# EAGLE library part DG411-J (library joakim)
Quad switch, normally closed
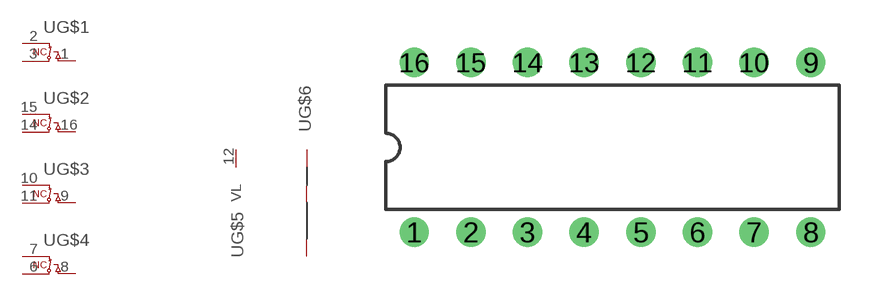
[diagram p61: symbol with the pads of DIL16J; footprint DIL16J]

Designator prefix -; gates G$1=DG-CELL-NC G$2=DG-CELL-NC G$3=DG-CELL-NC G$4=DG-CELL-NC G$5=VL-PWR G$6=XM8-PWR

## DG411-J  [DIL16J]
1  G$1:C
2  G$1:D
3  G$1:S
4  G$6:-15V  pwr
5  G$6:AGND  pwr
6  G$4:S
7  G$4:D
8  G$4:C
9  G$3:C
10  G$3:D
11  G$3:S
12  G$5:VL
13  G$6:+15V  pwr
14  G$2:S
15  G$2:D
16  G$2:C

## Footprint DIL16J (pad centres in mm)
Dual In Line 16
drill 0.813: 1 -8.89,-3.81; 2 -6.35,-3.81; 3 -3.81,-3.81; 4 -1.27,-3.81; 5 1.27,-3.81; 6 3.81,-3.81; 7 6.35,-3.81; 8 8.89,-3.81; 9 8.89,3.81; 10 6.35,3.81; 11 3.81,3.81; 12 1.27,3.81; 13 -1.27,3.81; 14 -3.81,3.81; 15 -6.35,3.81; 16 -8.89,3.81